# EAGLE library part 691412120009B (library Wurth_Connectors_WR-TBL Spring Clamp)
WR-TBL Serie 412B - 3.50 mm Screwless 45° Entry - 2.1 mm 2 Wires KIND PROPERTIES Pitch 3.5 mm MATERIAL PROPERTIES Insulator Material PA66 Insulator Flammability Rating UL94 V-0 Contact Material Phosphor Bronze Contact Plating Tin GENERAL INFORMATION Operating Temperature -40 up to +105 °C Compliance RoHS ELECTRICAL PROPERTIES IR cULus 6 A IR VDE 2 A Working Voltage [cULus] 300 V (AC) Working Voltage [VDE] 250 V (AC) Withstanding Voltage [cULus] 1600 V (AC) Withstanding Voltage [VDE] 2500 V (AC) Contact Resistance [cULus] 20 mΩ Contact Resistance [VDE] 20 mΩ Mechanical Properties Wire Strip Length 7.5 up to 8.5 (mm) Wire Properties Solid Wire Section (AWG) 14 to 20 (AWG) Solid Wire Section (Metric) 2.08 to 0.518 (mm²) Stranded Wire Section (AWG) 14 to 20 (AWG) Stranded Wire Section (Metric) 2.08 to 0.518 (mm²) CERTIFICATION cULus Approval E315414 VDE Approval 40036145 Packaging Properties Packaging Box <https://www.we-online.com/catalog/media/o33324v209%20Family_WR-TBL_6914121200xxB.jpg> Details see: https://www.we-online.com/catalog/en/TBL_3_50_412B_SCREWLESS_45-DEGREE_ENTRY_2_1MM2_WIRES_6914121200XXB/ Updated by Ella Wu 2019-12-31 2019(C) Wurth Elektronik
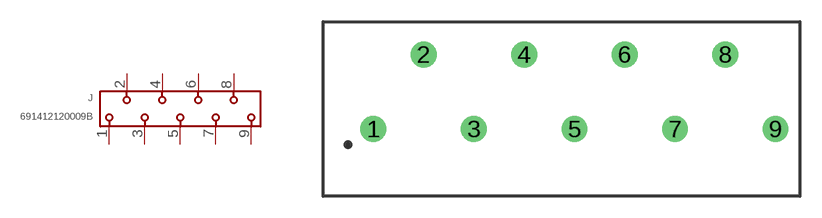
[diagram p11: symbol with the pads of 691412120009B; footprint 691412120009B]

Designator prefix J

## 691412120009B (DATASHEET-URL: https://www.we-online.com/redexpert/spec/691412120009B?ae; IR-UL: 6A; IR-VDE: 2A; MOUNT: THT; PART-NUMBER: 691412120009B; PINS: 9; PITCH: 3.5mm; TYPE: 45°; VALUE: 691412120009B; WIRE: 14 to 20 (AWG) 2.08 to 0.518 (mm²); WORKING-VOLTAGE-UL: 300V (AC); WORKING-VOLTAGE-VDE: 250V (AC))  [691412120009B]
1  1  pas
2  2  pas
3  3  pas
4  4  pas
5  5  pas
6  6  pas
7  7  pas
8  8  pas
9  9  pas

## Footprint 691412120009B (pad centres in mm)
WR-TBL Serie 412B - 3.50 mm Screwless 45° Entry - 2.1 mm 2 Wires Max Height = 12.8mm , Pitch 3.5mm , 9pins
drill 1.2: 1 -14,-2.6; 2 -10.5,2.6; 3 -7,-2.6; 4 -3.5,2.6; 5 0,-2.6; 6 3.5,2.6; 7 7,-2.6; 8 10.5,2.6; 9 14,-2.6